# EAGLE library part MCP48*-E/ (library MCP48xx)
8/10/12-Bit Voltage Output Digital-to-Analog Converter with Internal VREF and SPI Interface
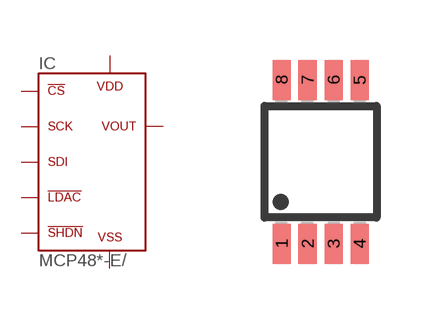
[diagram p0: symbol with the pads of MSOP8; footprint MSOP8]

Designator prefix IC

## MCP4801-E/MS (BIT: 8), MCP4811-E/MS (BIT: 10), MCP4821-E/MS (BIT: 12)  [MSOP8]
1  1
2  2
3  3
4  4
5  5
6  6
7  7
8  8

## Footprint MSOP8 (pad centres in mm)
Micro Small Outline Package Grid 0.65mm Source: http://ww1.microchip.com/downloads/en/DeviceDoc/21796H.pdf
smd 0.45 x 1: 1 -0.975,-2.05; 2 -0.325,-2.05; 3 0.325,-2.05; 4 0.975,-2.05; 5 0.975,2.05; 6 0.325,2.05; 7 -0.325,2.05; 8 -0.975,2.05